# EAGLE library part SN74HCS11PWR (library dip_switch)
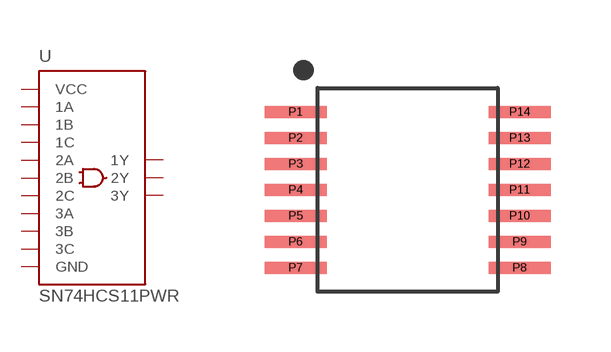
[diagram p3: symbol with the pads of TSSOP14; footprint TSSOP14]

Designator prefix U

## SN74HCS11PWR  [TSSOP14]
P1  1A
P2  1B
P3  2A
P4  2B
P5  2C
P6  2Y
P7  GND  pwr
P8  3Y
P9  3A
P10  3B
P11  3C
P12  1Y
P13  1C
P14  VCC  pwr

## Footprint TSSOP14 (pad centres in mm)
TSSOP-14 Mechanical Specifications: Pad Size: 1.55mm x .3mm Pin count: 14 Pin pitch: .65mm Package Size: 4.5mm 5.1mm Datasheet referenced for footprint <https://www.ti.com/lit/ds/symlink/sn74hcs4075.pdf?HQS=dis-dk-null-digikeymode-dsf-pf-null-wwe&ts=1657538011300>
smd 1.55 x 0.3: P1 -2.709,1.833; P2 -2.709,1.183; P3 -2.709,0.533; P4 -2.709,-0.117; P5 -2.709,-0.767; P6 -2.709,-1.417; P7 -2.709,-2.067; P8 2.891,-2.067; P9 2.891,-1.417; P10 2.891,-0.767; P11 2.891,-0.117; P12 2.891,0.533; P13 2.891,1.183; P14 2.891,1.833